# EAGLE library part CARDEDGE_2.54_60POS (library 07-Retrocomputing)
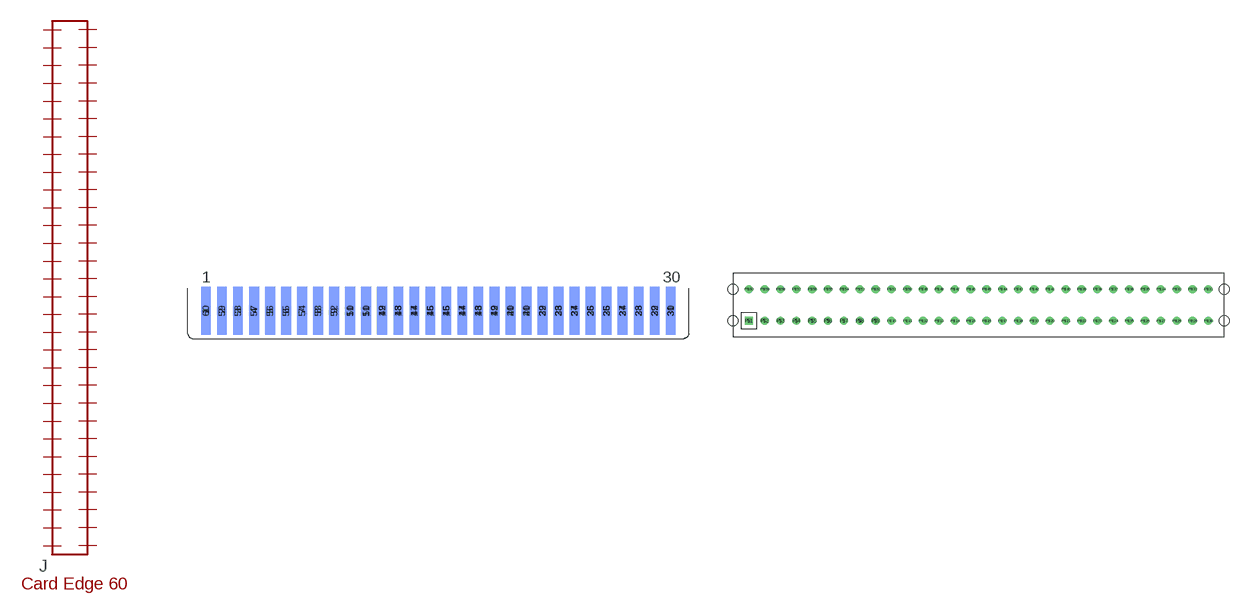
[diagram p34: symbol with the pads of CARDEDGE_2.54_60POS; footprints CARDEDGE_2.54_60POS, CARDSOCKET_2.54_60POS]

Designator prefix J

## CARDEDGE_2.54_60POSEDGE  [CARDEDGE_2.54_60POS]
1  P$1
2  P$2
3  P$3
4  P$4
5  P$5
6  P$6
7  P$7
8  P$8
9  P$9
10  P$10
11  P$11
12  P$12
13  P$13
14  P$14
15  P$15
16  P$16
17  P$17
18  P$18
19  P$19
20  P$20
21  P$21
22  P$22
23  P$23
24  P$24
25  P$25
26  P$26
27  P$27
28  P$28
29  P$29
30  P$30
31  P$31
32  P$32
33  P$33
34  P$34
35  P$35
36  P$36
37  P$37
38  P$38
39  P$39
40  P$40
41  P$41
42  P$42
43  P$43
44  P$44
45  P$45
46  P$46
47  P$47
48  P$48
49  P$49
50  P$50
51  P$51
52  P$52
53  P$53
54  P$54
55  P$55
56  P$56
57  P$57
58  P$58
59  P$59
60  P$60

## CARDEDGE_2.54_60POSSOCKET  [CARDSOCKET_2.54_60POS]
P$1  P$1
P$2  P$2
P$3  P$3
P$4  P$4
P$5  P$5
P$6  P$6
P$7  P$7
P$8  P$8
P$9  P$9
P$10  P$10
P$11  P$11
P$12  P$12
P$13  P$13
P$14  P$14
P$15  P$15
P$16  P$16
P$17  P$17
P$18  P$18
P$19  P$19
P$20  P$20
P$21  P$21
P$22  P$22
P$23  P$23
P$24  P$24
P$25  P$25
P$26  P$26
P$27  P$27
P$28  P$28
P$29  P$29
P$30  P$30
P$31  P$31
P$32  P$32
P$33  P$33
P$34  P$34
P$35  P$35
P$36  P$36
P$37  P$37
P$38  P$38
P$39  P$39
P$40  P$40
P$41  P$41
P$42  P$42
P$43  P$43
P$44  P$44
P$45  P$45
P$46  P$46
P$47  P$47
P$48  P$48
P$49  P$49
P$50  P$50
P$51  P$51
P$52  P$52
P$53  P$53
P$54  P$54
P$55  P$55
P$56  P$56
P$57  P$57
P$58  P$58
P$59  P$59
P$60  P$60

## Footprint CARDEDGE_2.54_60POS (pad centres in mm)
smd 1.556 x 7.62: 1 -36.83,4.41; 2 -34.29,4.41; 3 -31.75,4.41; 4 -29.21,4.41; 5 -26.67,4.41; 6 -24.13,4.41; 7 -21.59,4.41; 8 -19.05,4.41; 9 -16.51,4.41; 10 -13.97,4.41; 11 -11.43,4.41; 12 -8.89,4.41; 13 -6.35,4.41; 14 -3.81,4.41; 15 -1.27,4.41; 16 1.27,4.41; 17 3.81,4.41; 18 6.35,4.41; 19 8.89,4.41; 20 11.43,4.41; 21 13.97,4.41; 22 16.51,4.41; 23 19.05,4.41; 24 21.59,4.41; 25 24.13,4.41; 26 26.67,4.41; 27 29.21,4.41; 28 31.75,4.41; 29 34.29,4.41; 30 36.83,4.41
smd 1.556 x 7.62 bottom: 31 36.83,4.41; 32 34.29,4.41; 33 31.75,4.41; 34 29.21,4.41; 35 26.67,4.41; 36 24.13,4.41; 37 21.59,4.41; 38 19.05,4.41; 39 16.51,4.41; 40 13.97,4.41; 41 11.43,4.41; 42 8.89,4.41; 43 6.35,4.41; 44 3.81,4.41; 45 1.27,4.41; 46 -1.27,4.41; 47 -3.81,4.41; 48 -6.35,4.41; 49 -8.89,4.41; 50 -11.43,4.41; 51 -13.97,4.41; 52 -16.51,4.41; 53 -19.05,4.41; 54 -21.59,4.41; 55 -24.13,4.41; 56 -26.67,4.41; 57 -29.21,4.41; 58 -31.75,4.41; 59 -34.29,4.41; 60 -36.83,4.41

## Footprint CARDSOCKET_2.54_60POS (pad centres in mm)
drill 0.8 square: P$1 -36.83,-2.54
drill 0.8 round: P$2 -34.29,-2.54; P$3 -31.75,-2.54; P$4 -29.21,-2.54; P$5 -26.67,-2.54; P$6 -24.13,-2.54; P$7 -21.59,-2.54; P$8 -19.05,-2.54; P$9 -16.51,-2.54; P$10 -13.97,-2.54; P$11 -11.43,-2.54; P$12 -8.89,-2.54; P$13 -6.35,-2.54; P$14 -3.81,-2.54; P$15 -1.27,-2.54; P$16 1.27,-2.54; P$17 3.81,-2.54; P$18 6.35,-2.54; P$19 8.89,-2.54; P$20 11.43,-2.54; P$21 13.97,-2.54; P$22 16.51,-2.54; P$23 19.05,-2.54; P$24 21.59,-2.54; P$25 24.13,-2.54; P$26 26.67,-2.54; P$27 29.21,-2.54; P$28 31.75,-2.54; P$29 34.29,-2.54; P$30 36.83,-2.54; P$31 36.83,2.54; P$32 34.29,2.54; P$33 31.75,2.54; P$34 29.21,2.54; P$35 26.67,2.54; P$36 24.13,2.54; P$37 21.59,2.54; P$38 19.05,2.54; P$39 16.51,2.54; P$40 13.97,2.54; P$41 11.43,2.54; P$42 8.89,2.54; P$43 6.35,2.54; P$44 3.81,2.54; P$45 1.27,2.54; P$46 -1.27,2.54; P$47 -3.81,2.54; P$48 -6.35,2.54; P$49 -8.89,2.54; P$50 -11.43,2.54; P$51 -13.97,2.54; P$52 -16.51,2.54; P$53 -19.05,2.54; P$54 -21.59,2.54; P$55 -24.13,2.54; P$56 -26.67,2.54; P$57 -29.21,2.54; P$58 -31.75,2.54; P$59 -34.29,2.54; P$60 -36.83,2.54
hole 1.587 at -39.37,2.54
hole 1.587 at -39.37,-2.54
hole 1.587 at 39.37,2.54
hole 1.587 at 39.37,-2.54